# EAGLE library part TCAN334G (library precharge)
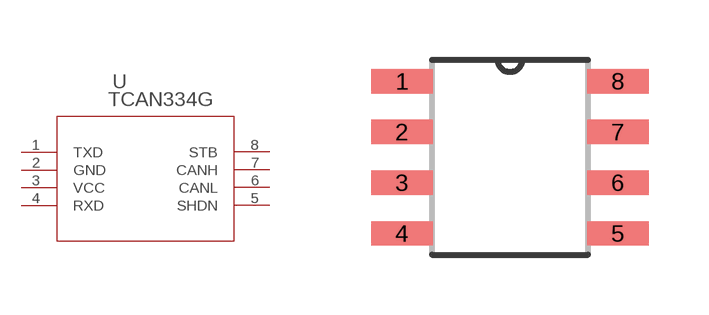
[diagram p3: symbol with the pads of SOT23-8; footprint SOT23-8]

Designator prefix -

## TCAN334G  [SOT23-8]
1  TXD  in
2  GND  pwr
3  VCC  pwr
4  RXD  out
5  SHDN  in
6  CANL
7  CANH
8  STB  in

## Footprint SOT23-8 (pad centres in mm)
smd 1.549 x 0.61: 1 -2.7,1.905; 2 -2.7,0.635; 3 -2.7,-0.635; 4 -2.7,-1.905; 5 2.7,-1.905; 6 2.7,-0.635; 7 2.7,0.635; 8 2.7,1.905